# EAGLE library part RES-ARRAY (library Seeed-OPL-Resistor)
Resistor Array
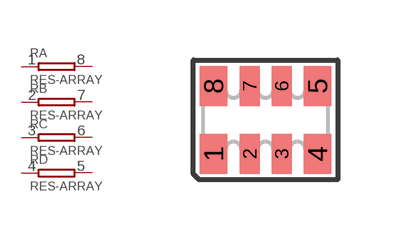
[diagram p0: symbol with the pads of RA1206-8; footprint RA1206-8]

Designator prefix R; gates A=RES B=RES C=RES D=RES

## RES-ARRAY-1206  [RA1206-8]
1  A:1  pas
2  B:1  pas
3  C:1  pas
4  D:1  pas
5  D:2  pas
6  C:2  pas
7  B:2  pas
8  A:2  pas

## Footprint RA1206-8 (pad centres in mm)
BOURNS Chip Resistor Array Source: RS Component / BUORNS
smd 0.7 x 1: 1 -1.3,-0.85; 4 1.3,-0.85; 5 1.3,0.85; 8 -1.3,0.85
smd 0.5 x 1: 2 -0.4,-0.85; 3 0.4,-0.85; 6 0.4,0.85; 7 -0.4,0.85